# EAGLE library part ATTINY84 (library homemade-hardware)
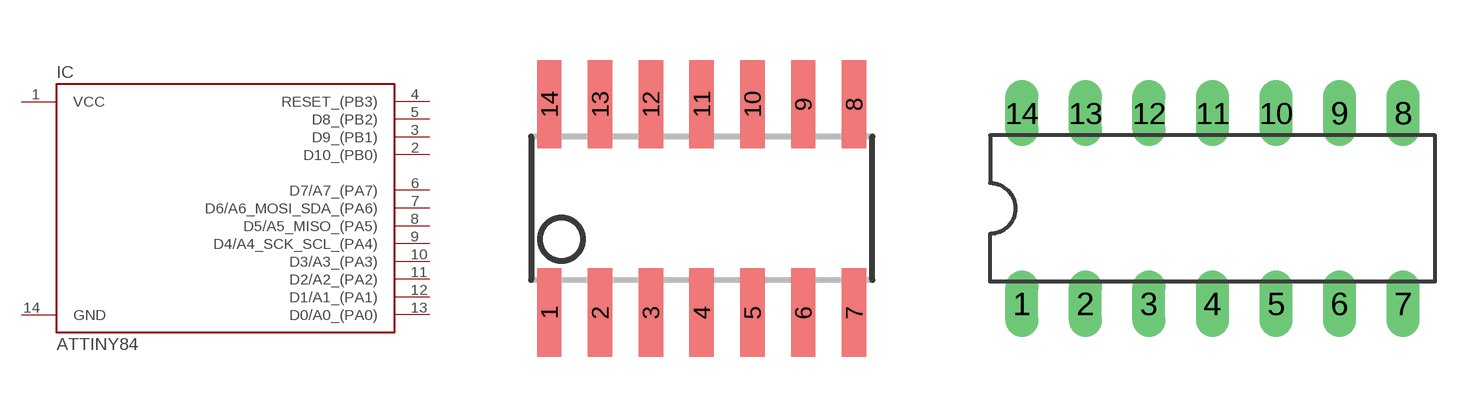
[diagram p16: symbol with the pads of SOIC14; footprints SOIC14, DIL14]

Designator prefix IC

## ATTINY84-SSU  [SOIC14]
1  VCC  pwr
2  D10_(PB0)
3  D9_(PB1)
4  RESET_(PB3)
5  D8_(PB2)
6  D7/A7_(PA7)
7  D6/A6_MOSI_SDA_(PA6)
8  D5/A5_MISO_(PA5)
9  D4/A4_SCK_SCL_(PA4)
10  D3/A3_(PA3)
11  D2/A2_(PA2)
12  D1/A1_(PA1)
13  D0/A0_(PA0)
14  GND  pwr

## ATTINY84-PU  [DIL14]
Pads as for SOIC14

## Footprint SOIC14 (pad centres in mm)
Small Outline Package
smd 0.61 x 2.21: 1 -3.81,-2.603; 2 -2.54,-2.603; 3 -1.27,-2.603; 4 0,-2.603; 5 1.27,-2.603; 6 2.54,-2.603; 7 3.81,-2.603; 8 3.81,2.603; 9 2.54,2.603; 10 1.27,2.603; 11 0,2.603; 12 -1.27,2.603; 13 -2.54,2.603; 14 -3.81,2.603

## Footprint DIL14 (pad centres in mm)
Dual In Line Package
drill 0.813 long: 1 -7.62,-3.81; 2 -5.08,-3.81; 3 -2.54,-3.81; 4 0,-3.81; 5 2.54,-3.81; 6 5.08,-3.81; 7 7.62,-3.81; 8 7.62,3.81; 9 5.08,3.81; 10 2.54,3.81; 11 0,3.81; 12 -2.54,3.81; 13 -5.08,3.81; 14 -7.62,3.81